# Altium footprint library Generic Connector.PcbLib: 143 footprints (part 4 of 9)
Each footprint in its own frame and in the unit in brackets; x right, y up, seen from the top. Pads: shape width x height; smd on the part's side, far side on the other; paste and mask are expansions set on the pad; w line width, h text height; cw(c..) or ccw(c..) is an arc to the next point about the centre after c.
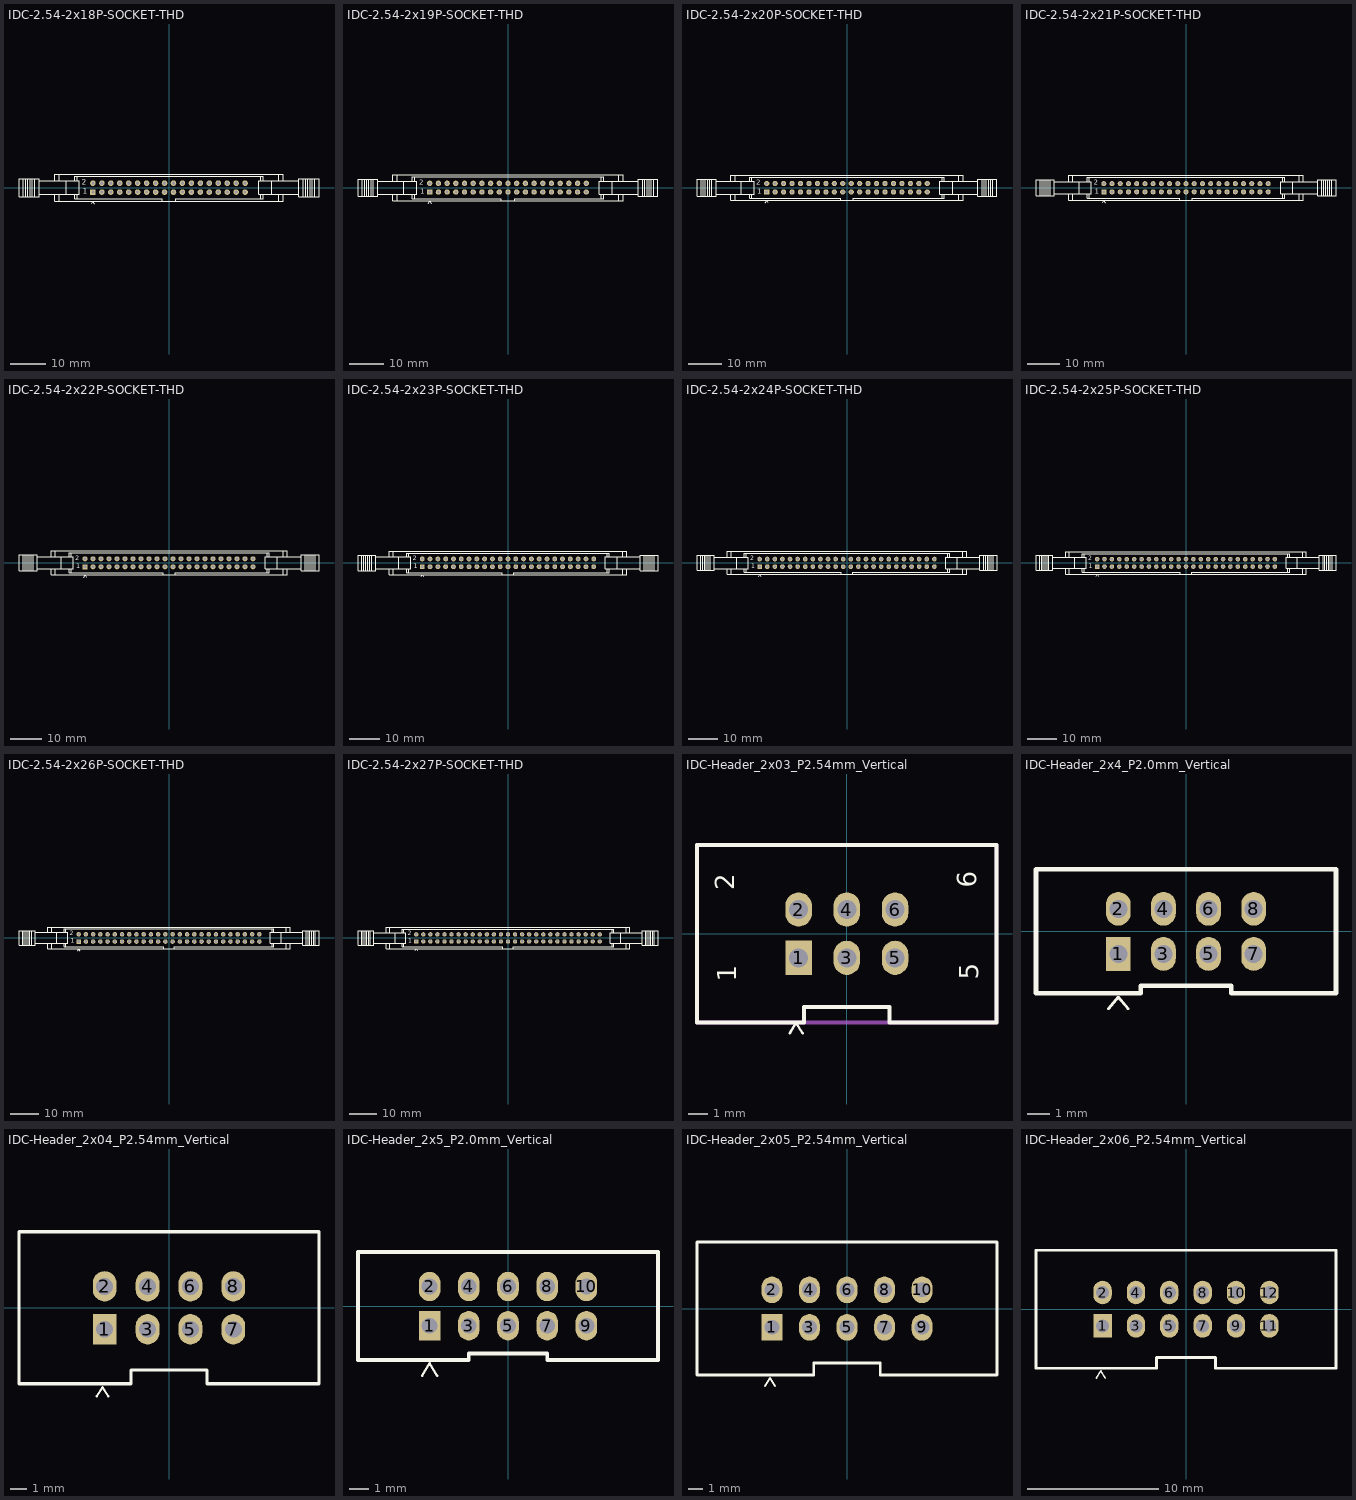
[diagram p3: the footprints below, top view; thin cyan lines are the x and y axes]

## IDC-2.54-2x18P-SOCKET-THD [mil]
pads (36):
  rect 62x62 hole 35.43: 1(-850,-50)
  round 62 hole 35.43: 2(-850,50) 3(-750,-50) 4(-750,50) 5(-650,-50) 6(-650,50) 7(-550,-50) 8(-550,50) 9(-450,-50) 10(-450,50) 11(-350,-50) 12(-350,50) 13(-250,-50) 14(-250,50) 15(-150,-50) 16(-150,50) 17(-50,-50) 18(-50,50) 19(50,-50) 20(50,50) 21(150,-50) 22(150,50) 23(250,-50) 24(250,50) 25(350,-50) 26(350,50) 27(450,-50) 28(450,50) 29(550,-50) 30(550,50) 31(650,-50) 32(650,50) 33(750,-50) 34(750,50) 35(850,-50) 36(850,50)
Top Overlay:
  lines w5: -865,-180 -850,-155 -835,-180
  lines w7.87: -1050,-125 -75,-125 ; 75,-125 1050,-125
  lines w8: -1625,-100 -1625,100 ; -1600,-100 -1600,100 ; -1575,-100 -1575,100 ; -1550,-100 -1550,100 ; -1525,-100 -1525,100 ; -1500,-100 -1500,100 ; -1450,-75 -1050,-75 ; -1450,75 -1050,75 ; -1275,-75 -1275,-150 1275,-150 1275,-75 ; -1275,75 -1275,150 1275,150 1275,75 ; -1225,-150 -1225,-75 ; -1225,75 -1225,150 ; -1150,-75 -1150,75 ; -1050,-125 -1050,-75 ; -1025,-125 -1025,-75 ; -1025,75 -1025,125 ; -75,-150 -75,-125 ; 75,-150 75,-125 ; 1025,-125 1025,-75 ; 1025,75 1025,125 ; 1050,-125 1050,-75 ; 1150,-75 1150,75 ; 1225,-150 1225,-75 ; 1225,75 1225,150 ; 1450,-75 1050,-75 ; 1450,75 1050,75 ; 1500,-100 1500,100 ; 1525,-100 1525,100 ; 1550,-100 1550,100 ; 1575,-100 1575,100 ; 1600,-100 1600,100 ; 1625,-100 1625,100 ; -1050,-75 -1000,-75 -1000,75 -1050,75 ; -1050,75 -1050,125 1050,125 1050,75 ; 1050,-75 1000,-75 1000,75 1050,75 ; 1675,-100 1675,100 ; 1675,-100 1675,100 ; 1675,-100 1675,100 ; 1675,-100 1450,-100 1450,100 1675,100 ; -1675,-100 -1450,-100 -1450,100 -1675,100 -1675,-100
  text "1" at -962,-70 h60
  text "2" at -972,35 h60

## IDC-2.54-2x19P-SOCKET-THD [mil]
pads (38):
  rect 62x62 hole 35.43: 1(-900,-50)
  round 62 hole 35.43: 2(-900,50) 3(-800,-50) 4(-800,50) 5(-700,-50) 6(-700,50) 7(-600,-50) 8(-600,50) 9(-500,-50) 10(-500,50) 11(-400,-50) 12(-400,50) 13(-300,-50) 14(-300,50) 15(-200,-50) 16(-200,50) 17(-100,-50) 18(-100,50) 19(0,-50) 20(0,50) 21(100,-50) 22(100,50) 23(200,-50) 24(200,50) 25(300,-50) 26(300,50) 27(400,-50) 28(400,50) 29(500,-50) 30(500,50) 31(600,-50) 32(600,50) 33(700,-50) 34(700,50) 35(800,-50) 36(800,50) 37(900,-50) 38(900,50)
Top Overlay:
  lines w5: -915,-180 -900,-155 -885,-180
  lines w7.87: -1100,-125 -75,-125 ; 75,-125 1100,-125
  lines w8: -1675,-100 -1675,100 ; -1650,-100 -1650,100 ; -1625,-100 -1625,100 ; -1600,-100 -1600,100 ; -1575,-100 -1575,100 ; -1550,-100 -1550,100 ; -1500,-75 -1100,-75 ; -1500,75 -1100,75 ; -1325,-75 -1325,-150 1325,-150 1325,-75 ; -1325,75 -1325,150 1325,150 1325,75 ; -1275,-150 -1275,-75 ; -1275,75 -1275,150 ; -1200,-75 -1200,75 ; -1100,-125 -1100,-75 ; -1075,-125 -1075,-75 ; -1075,75 -1075,125 ; -75,-150 -75,-125 ; 75,-150 75,-125 ; 1075,-125 1075,-75 ; 1075,75 1075,125 ; 1100,-125 1100,-75 ; 1200,-75 1200,75 ; 1275,-150 1275,-75 ; 1275,75 1275,150 ; 1500,-75 1100,-75 ; 1500,75 1100,75 ; 1550,-100 1550,100 ; 1575,-100 1575,100 ; 1600,-100 1600,100 ; 1625,-100 1625,100 ; 1650,-100 1650,100 ; 1675,-100 1675,100 ; -1100,-75 -1050,-75 -1050,75 -1100,75 ; -1100,75 -1100,125 1100,125 1100,75 ; 1100,-75 1050,-75 1050,75 1100,75 ; 1725,-100 1500,-100 1500,100 1725,100 ; 1725,-100 1725,100 ; 1725,-100 1725,100 ; 1725,-100 1725,100 ; -1725,-100 -1500,-100 -1500,100 -1725,100 -1725,-100
  text "1" at -1012,-70 h60
  text "2" at -1022,35 h60

## IDC-2.54-2x20P-SOCKET-THD [mil]
pads (40):
  rect 62x62 hole 35.43: 1(-950,-50)
  round 62 hole 35.43: 2(-950,50) 3(-850,-50) 4(-850,50) 5(-750,-50) 6(-750,50) 7(-650,-50) 8(-650,50) 9(-550,-50) 10(-550,50) 11(-450,-50) 12(-450,50) 13(-350,-50) 14(-350,50) 15(-250,-50) 16(-250,50) 17(-150,-50) 18(-150,50) 19(-50,-50) 20(-50,50) 21(50,-50) 22(50,50) 23(150,-50) 24(150,50) 25(250,-50) 26(250,50) 27(350,-50) 28(350,50) 29(450,-50) 30(450,50) 31(550,-50) 32(550,50) 33(650,-50) 34(650,50) 35(750,-50) 36(750,50) 37(850,-50) 38(850,50) 39(950,-50) 40(950,50)
Top Overlay:
  lines w5: -965,-180 -950,-155 -935,-180
  lines w8: -1725,-100 -1725,100 ; -1700,-100 -1700,100 ; -1675,-100 -1675,100 ; -1650,-100 -1650,100 ; -1625,-100 -1625,100 ; -1600,-100 -1600,100 ; -1550,-75 -1150,-75 ; -1550,75 -1150,75 ; -1375,-75 -1375,-150 1375,-150 1375,-75 ; -1375,75 -1375,150 1375,150 1375,75 ; -1325,-150 -1325,-75 ; -1325,75 -1325,150 ; -1250,-75 -1250,75 ; -1125,-125 -1125,-75 ; -1125,75 -1125,125 ; -75,-150 -75,-125 -1150,-125 -1150,-75 ; 75,-150 75,-125 1150,-125 1150,-75 ; 1125,-125 1125,-75 ; 1125,75 1125,125 ; 1250,-75 1250,75 ; 1325,-150 1325,-75 ; 1325,75 1325,150 ; 1550,-75 1150,-75 ; 1550,75 1150,75 ; 1600,-100 1600,100 ; 1625,-100 1625,100 ; 1650,-100 1650,100 ; 1675,-100 1675,100 ; 1700,-100 1700,100 ; 1725,-100 1725,100 ; -1150,-75 -1100,-75 -1100,75 -1150,75 ; -1150,75 -1150,125 1150,125 1150,75 ; 1150,-75 1100,-75 1100,75 1150,75 ; 1775,-100 1550,-100 1550,100 1775,100 ; 1775,-100 1775,100 ; 1775,-100 1775,100 ; 1775,-100 1775,100 ; -1775,-100 -1550,-100 -1550,100 -1775,100 -1775,-100
  text "1" at -1062,-70 h60
  text "2" at -1072,35 h60

## IDC-2.54-2x21P-SOCKET-THD [mil]
pads (42):
  rect 62x62 hole 35.43: 1(-1000,-50)
  round 62 hole 35.43: 2(-1000,50) 3(-900,-50) 4(-900,50) 5(-800,-50) 6(-800,50) 7(-700,-50) 8(-700,50) 9(-600,-50) 10(-600,50) 11(-500,-50) 12(-500,50) 13(-400,-50) 14(-400,50) 15(-300,-50) 16(-300,50) 17(-200,-50) 18(-200,50) 19(-100,-50) 20(-100,50) 21(0,-50) 22(0,50) 23(100,-50) 24(100,50) 25(200,-50) 26(200,50) 27(300,-50) 28(300,50) 29(400,-50) 30(400,50) 31(500,-50) 32(500,50) 33(600,-50) 34(600,50) 35(700,-50) 36(700,50) 37(800,-50) 38(800,50) 39(900,-50) 40(900,50) 41(1000,-50) 42(1000,50)
Top Overlay:
  lines w5: -1015,-180 -1000,-155 -985,-180
  lines w8: -1775,-100 -1775,100 ; -1750,-100 -1750,100 ; -1725,-100 -1725,100 ; -1700,-100 -1700,100 ; -1675,-100 -1675,100 ; -1650,-100 -1650,100 ; -1600,-75 -1200,-75 ; -1600,75 -1200,75 ; -1425,-75 -1425,-150 1425,-150 1425,-75 ; -1425,75 -1425,150 1425,150 1425,75 ; -1375,-150 -1375,-75 ; -1375,75 -1375,150 ; -1300,-75 -1300,75 ; -1175,-125 -1175,-75 ; -1175,75 -1175,125 ; -75,-150 -75,-125 -1200,-125 -1200,-75 ; 75,-150 75,-125 1200,-125 1200,-75 ; 1175,-125 1175,-75 ; 1175,75 1175,125 ; 1300,-75 1300,75 ; 1375,-150 1375,-75 ; 1375,75 1375,150 ; 1600,-75 1200,-75 ; 1600,75 1200,75 ; 1650,-100 1650,100 ; 1675,-100 1675,100 ; 1700,-100 1700,100 ; 1725,-100 1725,100 ; 1750,-100 1750,100 ; 1775,-100 1775,100 ; -1200,-75 -1150,-75 -1150,75 -1200,75 ; -1200,75 -1200,125 1200,125 1200,75 ; 1200,-75 1150,-75 1150,75 1200,75 ; 1825,-100 1600,-100 1600,100 1825,100 ; 1825,-100 1825,100 ; 1825,-100 1825,100 ; 1825,-100 1825,100 ; -1825,-100 -1825,100 -1600,100 -1600,-100 -1825,-100
  text "2" at -1122,35 h60
  text "1" at -1112,-70 h60

## IDC-2.54-2x22P-SOCKET-THD [mil]
pads (44):
  rect 62x62 hole 35.43: 1(-1050,-50)
  round 62 hole 35.43: 2(-1050,50) 3(-950,-50) 4(-950,50) 5(-850,-50) 6(-850,50) 7(-750,-50) 8(-750,50) 9(-650,-50) 10(-650,50) 11(-550,-50) 12(-550,50) 13(-450,-50) 14(-450,50) 15(-350,-50) 16(-350,50) 17(-250,-50) 18(-250,50) 19(-150,-50) 20(-150,50) 21(-50,-50) 22(-50,50) 23(50,-50) 24(50,50) 25(150,-50) 26(150,50) 27(250,-50) 28(250,50) 29(350,-50) 30(350,50) 31(450,-50) 32(450,50) 33(550,-50) 34(550,50) 35(650,-50) 36(650,50) 37(750,-50) 38(750,50) 39(850,-50) 40(850,50) 41(950,-50) 42(950,50) 43(1050,-50) 44(1050,50)
Top Overlay:
  lines w5: -1065,-180 -1050,-155 -1035,-180
  lines w8: -1825,-100 -1825,100 ; -1800,-100 -1800,100 ; -1775,-100 -1775,100 ; -1750,-100 -1750,100 ; -1725,-100 -1725,100 ; -1700,-100 -1700,100 ; -1650,-75 -1250,-75 ; -1650,75 -1250,75 ; -1475,-75 -1475,-150 1475,-150 1475,-75 ; -1475,75 -1475,150 1475,150 1475,75 ; -1425,-150 -1425,-75 ; -1425,75 -1425,150 ; -1350,-75 -1350,75 ; -1225,-125 -1225,-75 ; -1225,75 -1225,125 ; -75,-150 -75,-125 -1250,-125 -1250,-75 ; 75,-150 75,-125 1250,-125 1250,-75 ; 1225,-125 1225,-75 ; 1225,75 1225,125 ; 1350,-75 1350,75 ; 1425,-150 1425,-75 ; 1425,75 1425,150 ; 1650,-75 1250,-75 ; 1650,75 1250,75 ; 1700,-100 1700,100 ; 1725,-100 1725,100 ; 1750,-100 1750,100 ; 1775,-100 1775,100 ; 1800,-100 1800,100 ; 1825,-100 1825,100 ; -1250,-75 -1200,-75 -1200,75 -1250,75 ; -1250,75 -1250,125 1250,125 1250,75 ; 1250,-75 1200,-75 1200,75 1250,75 ; 1875,-100 1875,100 ; 1875,-100 1875,100 ; 1875,-100 1875,100 ; 1875,-100 1650,-100 1650,100 1875,100 ; -1875,-100 -1650,-100 -1650,100 -1875,100 -1875,-100
  text "1" at -1162,-70 h60
  text "2" at -1172,35 h60

## IDC-2.54-2x23P-SOCKET-THD [mm]
pads (46):
  rect 1.6x1.6 hole 0.9: 1(-27.94,-1.27)
  round 1.6 hole 0.9: 2(-27.94,1.27) 3(-25.4,-1.27) 4(-25.4,1.27) 5(-22.86,-1.27) 6(-22.86,1.27) 7(-20.32,-1.27) 8(-20.32,1.27) 9(-17.78,-1.27) 10(-17.78,1.27) 11(-15.24,-1.27) 12(-15.24,1.27) 13(-12.7,-1.27) 14(-12.7,1.27) 15(-10.16,-1.27) 16(-10.16,1.27) 17(-7.62,-1.27) 18(-7.62,1.27) 19(-5.08,-1.27) 20(-5.08,1.27) 21(-2.54,-1.27) 22(-2.54,1.27) 23(0,-1.27) 24(0,1.27) 25(2.54,-1.27) 26(2.54,1.27) 27(5.08,-1.27) 28(5.08,1.27) 29(7.62,-1.27) 30(7.62,1.27) 31(10.16,-1.27) 32(10.16,1.27) 33(12.7,-1.27) 34(12.7,1.27) 35(15.24,-1.27) 36(15.24,1.27) 37(17.78,-1.27) 38(17.78,1.27) 39(20.32,-1.27) 40(20.32,1.27) 41(22.86,-1.27) 42(22.86,1.27) 43(25.4,-1.27) 44(25.4,1.27) 45(27.94,-1.27) 46(27.94,1.27)
Top Overlay:
  lines w0.127: -28.321,-4.572 -27.94,-3.937 -27.559,-4.572
  lines w0.203: -47.625,-2.54 -47.625,2.54 ; -46.99,-2.54 -46.99,2.54 ; -46.355,-2.54 -46.355,2.54 ; -45.72,-2.54 -45.72,2.54 ; -45.085,-2.54 -45.085,2.54 ; -44.45,-2.54 -44.45,2.54 ; -43.18,-1.905 -33.02,-1.905 ; -43.18,1.905 -33.02,1.905 ; -38.735,-1.905 -38.735,-3.81 38.735,-3.81 38.735,-1.905 ; -38.735,1.905 -38.735,3.81 38.735,3.81 38.735,1.905 ; -37.465,-3.81 -37.465,-1.905 ; -37.465,1.905 -37.465,3.81 ; -35.56,-1.905 -35.56,1.905 ; -32.385,-3.175 -32.385,-1.905 ; -32.385,1.905 -32.385,3.175 ; -1.905,-3.81 -1.905,-3.175 -33.02,-3.175 -33.02,-1.905 ; 1.905,-3.81 1.905,-3.175 33.02,-3.175 33.02,-1.905 ; 32.385,-3.175 32.385,-1.905 ; 32.385,1.905 32.385,3.175 ; 35.56,-1.905 35.56,1.905 ; 37.465,-3.81 37.465,-1.905 ; 37.465,1.905 37.465,3.81 ; 43.18,-1.905 33.02,-1.905 ; 43.18,1.905 33.02,1.905 ; 44.45,-2.54 44.45,2.54 ; 45.085,-2.54 45.085,2.54 ; 45.72,-2.54 45.72,2.54 ; 46.355,-2.54 46.355,2.54 ; 46.99,-2.54 46.99,2.54 ; 47.625,-2.54 47.625,2.54 ; -33.02,-1.905 -31.75,-1.905 -31.75,1.905 -33.02,1.905 ; -33.02,1.905 -33.02,3.175 33.02,3.175 33.02,1.905 ; 33.02,-1.905 31.75,-1.905 31.75,1.905 33.02,1.905 ; 48.895,-2.54 43.18,-2.54 43.18,2.54 48.895,2.54 ; 48.895,-2.54 48.895,2.54 ; 48.895,-2.54 48.895,2.54 ; 48.895,-2.54 48.895,2.54 ; -48.895,-2.54 -43.18,-2.54 -43.18,2.54 -48.895,2.54 -48.895,-2.54
  text "1" at -30.785,-1.778 h1.52
  text "2" at -31.039,0.889 h1.52

## IDC-2.54-2x24P-SOCKET-THD [mil]
pads (48):
  rect 62x62 hole 35.43: 1(-1150,-50)
  round 62 hole 35.43: 2(-1150,50) 3(-1050,-50) 4(-1050,50) 5(-950,-50) 6(-950,50) 7(-850,-50) 8(-850,50) 9(-750,-50) 10(-750,50) 11(-650,-50) 12(-650,50) 13(-550,-50) 14(-550,50) 15(-450,-50) 16(-450,50) 17(-350,-50) 18(-350,50) 19(-250,-50) 20(-250,50) 21(-150,-50) 22(-150,50) 23(-50,-50) 24(-50,50) 25(50,-50) 26(50,50) 27(150,-50) 28(150,50) 29(250,-50) 30(250,50) 31(350,-50) 32(350,50) 33(450,-50) 34(450,50) 35(550,-50) 36(550,50) 37(650,-50) 38(650,50) 39(750,-50) 40(750,50) 41(850,-50) 42(850,50) 43(950,-50) 44(950,50) 45(1050,-50) 46(1050,50) 47(1150,-50) 48(1150,50)
Top Overlay:
  lines w5: -1165,-180 -1150,-155 -1135,-180
  lines w8: -1925,-100 -1925,100 ; -1900,-100 -1900,100 ; -1875,-100 -1875,100 ; -1850,-100 -1850,100 ; -1825,-100 -1825,100 ; -1800,-100 -1800,100 ; -1750,-75 -1350,-75 ; -1750,75 -1350,75 ; -1575,-75 -1575,-150 1575,-150 1575,-75 ; -1575,75 -1575,150 1575,150 1575,75 ; -1525,-150 -1525,-75 ; -1525,75 -1525,150 ; -1450,-75 -1450,75 ; -1325,-125 -1325,-75 ; -1325,75 -1325,125 ; -75,-150 -75,-125 -1350,-125 -1350,-75 ; 75,-150 75,-125 1350,-125 1350,-75 ; 1325,-125 1325,-75 ; 1325,75 1325,125 ; 1450,-75 1450,75 ; 1525,-150 1525,-75 ; 1525,75 1525,150 ; 1750,-75 1350,-75 ; 1750,75 1350,75 ; 1800,-100 1800,100 ; 1825,-100 1825,100 ; 1850,-100 1850,100 ; 1875,-100 1875,100 ; 1900,-100 1900,100 ; 1925,-100 1925,100 ; -1350,-75 -1300,-75 -1300,75 -1350,75 ; -1350,75 -1350,125 1350,125 1350,75 ; 1350,-75 1300,-75 1300,75 1350,75 ; 1975,-100 1750,-100 1750,100 1975,100 ; 1975,-100 1975,100 ; 1975,-100 1975,100 ; 1975,-100 1975,100 ; -1975,-100 -1975,100 -1750,100 -1750,-100 -1975,-100
  text "2" at -1272,35 h60
  text "1" at -1262,-70 h60

## IDC-2.54-2x25P-SOCKET-THD [mil]
pads (50):
  rect 62x62 hole 35.43: 1(-1200,-50)
  round 62 hole 35.43: 2(-1200,50) 3(-1100,-50) 4(-1100,50) 5(-1000,-50) 6(-1000,50) 7(-900,-50) 8(-900,50) 9(-800,-50) 10(-800,50) 11(-700,-50) 12(-700,50) 13(-600,-50) 14(-600,50) 15(-500,-50) 16(-500,50) 17(-400,-50) 18(-400,50) 19(-300,-50) 20(-300,50) 21(-200,-50) 22(-200,50) 23(-100,-50) 24(-100,50) 25(0,-50) 26(0,50) 27(100,-50) 28(100,50) 29(200,-50) 30(200,50) 31(300,-50) 32(300,50) 33(400,-50) 34(400,50) 35(500,-50) 36(500,50) 37(600,-50) 38(600,50) 39(700,-50) 40(700,50) 41(800,-50) 42(800,50) 43(900,-50) 44(900,50) 45(1000,-50) 46(1000,50) 47(1100,-50) 48(1100,50) 49(1200,-50) 50(1200,50)
Top Overlay:
  lines w5: -1215,-180 -1200,-155 -1185,-180
  lines w8: -1975,-100 -1975,100 ; -1950,-100 -1950,100 ; -1925,-100 -1925,100 ; -1900,-100 -1900,100 ; -1875,-100 -1875,100 ; -1850,-100 -1850,100 ; -1800,-75 -1400,-75 ; -1800,75 -1400,75 ; -1625,-75 -1625,-150 1625,-150 1625,-75 ; -1625,75 -1625,150 1625,150 1625,75 ; -1575,-150 -1575,-75 ; -1575,75 -1575,150 ; -1500,-75 -1500,75 ; -1375,-125 -1375,-75 ; -1375,75 -1375,125 ; -75,-150 -75,-125 -1400,-125 -1400,-75 ; 75,-150 75,-125 1400,-125 1400,-75 ; 1375,-125 1375,-75 ; 1375,75 1375,125 ; 1500,-75 1500,75 ; 1575,-150 1575,-75 ; 1575,75 1575,150 ; 1800,-75 1400,-75 ; 1800,75 1400,75 ; 1850,-100 1850,100 ; 1875,-100 1875,100 ; 1900,-100 1900,100 ; 1925,-100 1925,100 ; 1950,-100 1950,100 ; 1975,-100 1975,100 ; -1400,-75 -1350,-75 -1350,75 -1400,75 ; -1400,75 -1400,125 1400,125 1400,75 ; 1400,-75 1350,-75 1350,75 1400,75 ; 2025,-100 1800,-100 1800,100 2025,100 ; 2025,-100 2025,100 ; 2025,-100 2025,100 ; 2025,-100 2025,100 ; -2025,-100 -2025,100 -1800,100 -1800,-100 -2025,-100
  text "2" at -1322,35 h60
  text "1" at -1312,-70 h60

## IDC-2.54-2x26P-SOCKET-THD [mil]
pads (52):
  rect 62x62 hole 35.43: 1(-1250,-50)
  round 62 hole 35.43: 2(-1250,50) 3(-1150,-50) 4(-1150,50) 5(-1050,-50) 6(-1050,50) 7(-950,-50) 8(-950,50) 9(-850,-50) 10(-850,50) 11(-750,-50) 12(-750,50) 13(-650,-50) 14(-650,50) 15(-550,-50) 16(-550,50) 17(-450,-50) 18(-450,50) 19(-350,-50) 20(-350,50) 21(-250,-50) 22(-250,50) 23(-150,-50) 24(-150,50) 25(-50,-50) 26(-50,50) 27(50,-50) 28(50,50) 29(150,-50) 30(150,50) 31(250,-50) 32(250,50) 33(350,-50) 34(350,50) 35(450,-50) 36(450,50) 37(550,-50) 38(550,50) 39(650,-50) 40(650,50) 41(750,-50) 42(750,50) 43(850,-50) 44(850,50) 45(950,-50) 46(950,50) 47(1050,-50) 48(1050,50) 49(1150,-50) 50(1150,50) 51(1250,-50) 52(1250,50)
Top Overlay:
  lines w5: -1265,-180 -1250,-155 -1235,-180
  lines w8: -2025,-100 -2025,100 ; -2000,-100 -2000,100 ; -1975,-100 -1975,100 ; -1950,-100 -1950,100 ; -1925,-100 -1925,100 ; -1900,-100 -1900,100 ; -1850,-75 -1450,-75 ; -1850,75 -1450,75 ; -1675,-75 -1675,-150 1675,-150 1675,-75 ; -1675,75 -1675,150 1675,150 1675,75 ; -1625,-150 -1625,-75 ; -1625,75 -1625,150 ; -1550,-75 -1550,75 ; -1425,-125 -1425,-75 ; -1425,75 -1425,125 ; -75,-150 -75,-125 -1450,-125 -1450,-75 ; 75,-150 75,-125 1450,-125 1450,-75 ; 1425,-125 1425,-75 ; 1425,75 1425,125 ; 1550,-75 1550,75 ; 1625,-150 1625,-75 ; 1625,75 1625,150 ; 1850,-75 1450,-75 ; 1850,75 1450,75 ; 1900,-100 1900,100 ; 1925,-100 1925,100 ; 1950,-100 1950,100 ; 1975,-100 1975,100 ; 2000,-100 2000,100 ; 2025,-100 2025,100 ; -1450,-75 -1400,-75 -1400,75 -1450,75 ; -1450,75 -1450,125 1450,125 1450,75 ; 1450,-75 1400,-75 1400,75 1450,75 ; 2075,-100 2075,100 ; 2075,-100 2075,100 ; 2075,-100 2075,100 ; 2075,-100 1850,-100 1850,100 2075,100 ; -2075,-100 -2075,100 -1850,100 -1850,-100 -2075,-100
  text "2" at -1372,35 h60
  text "1" at -1362,-70 h60

## IDC-2.54-2x27P-SOCKET-THD [mil]
pads (54):
  rect 62x62 hole 35.43: 1(-1300,-50)
  round 62 hole 35.43: 2(-1300,50) 3(-1200,-50) 4(-1200,50) 5(-1100,-50) 6(-1100,50) 7(-1000,-50) 8(-1000,50) 9(-900,-50) 10(-900,50) 11(-800,-50) 12(-800,50) 13(-700,-50) 14(-700,50) 15(-600,-50) 16(-600,50) 17(-500,-50) 18(-500,50) 19(-400,-50) 20(-400,50) 21(-300,-50) 22(-300,50) 23(-200,-50) 24(-200,50) 25(-100,-50) 26(-100,50) 27(0,-50) 28(0,50) 29(100,-50) 30(100,50) 31(200,-50) 32(200,50) 33(300,-50) 34(300,50) 35(400,-50) 36(400,50) 37(500,-50) 38(500,50) 39(600,-50) 40(600,50) 41(700,-50) 42(700,50) 43(800,-50) 44(800,50) 45(900,-50) 46(900,50) 47(1000,-50) 48(1000,50) 49(1100,-50) 50(1100,50) 51(1200,-50) 52(1200,50) 53(1300,-50) 54(1300,50)
Top Overlay:
  lines w5: -1315,-180 -1300,-155 -1285,-180
  lines w8: -2075,-100 -2075,100 ; -2050,-100 -2050,100 ; -2025,-100 -2025,100 ; -2000,-100 -2000,100 ; -1975,-100 -1975,100 ; -1950,-100 -1950,100 ; -1900,-75 -1500,-75 ; -1900,75 -1500,75 ; -1725,-75 -1725,-150 1725,-150 1725,-75 ; -1725,75 -1725,150 1725,150 1725,75 ; -1675,-150 -1675,-75 ; -1675,75 -1675,150 ; -1600,-75 -1600,75 ; -1475,-125 -1475,-75 ; -1475,75 -1475,125 ; -75,-150 -75,-125 -1500,-125 -1500,-75 ; 75,-150 75,-125 1500,-125 1500,-75 ; 1475,-125 1475,-75 ; 1475,75 1475,125 ; 1600,-75 1600,75 ; 1675,-150 1675,-75 ; 1675,75 1675,150 ; 1900,-75 1500,-75 ; 1900,75 1500,75 ; 1950,-100 1950,100 ; 1975,-100 1975,100 ; 2000,-100 2000,100 ; 2025,-100 2025,100 ; 2050,-100 2050,100 ; 2075,-100 2075,100 ; -1500,-75 -1450,-75 -1450,75 -1500,75 ; -1500,75 -1500,125 1500,125 1500,75 ; 1500,-75 1450,-75 1450,75 1500,75 ; 2125,-100 1900,-100 1900,100 2125,100 ; 2125,-100 2125,100 ; 2125,-100 2125,100 ; 2125,-100 2125,100 ; -2125,-100 -2125,100 -1900,100 -1900,-100 -2125,-100
  text "2" at -1422,35 h60
  text "1" at -1412,-70 h60

## IDC-Header_2x03_P2.54mm_Vertical [mm]
pads (6):
  rect 1.4x1.8 hole 1: 1(-2.54,-1.27)
  oval 1.4x1.8 hole 1: 2(-2.54,1.27) 3(0,-1.27) 4(0,1.27) 5(2.54,-1.27) 6(2.54,1.27)
Top Overlay:
  lines w0.127: -3.007,-5.233 -2.667,-4.699 -2.327,-5.233
  lines w0.2: -7.89,-4.675 -7.89,4.675 7.89,4.675 7.89,-4.675 2.25,-4.675 2.25,-3.858 -2.25,-3.858 -2.25,-4.675 -7.89,-4.675
  text "5" at 6.909,-2.413 h1
  text "6" at 6.807,2.413 h1
  text "2" at -5.918,2.286 h1
  text "1" at -5.817,-2.54 h1
Assembly Top:
  lines w0.203: -7.89,-4.675 7.89,-4.675 7.89,4.675 -7.89,4.675 -7.89,-4.675
3D body "IDC-Header_2x03_P2.54mm_Vertical.step": height 9.1, standoff -3, extent -7.716,-4.521 7.564,4.579

## IDC-Header_2x4_P2.0mm_Vertical [mm]
pads (8):
  rect 1.1x1.5 hole 0.8: 1(-3,-1)
  oval 1.1x1.5 hole 0.8: 2(-3,1) 3(-1,-1) 4(-1,1) 5(1,-1) 6(1,1) 7(3,-1) 8(3,1)
Top Overlay:
  lines w0.127: -3.429,-3.429 -3,-2.921 -2.571,-3.429
  lines w0.2: -6.65,-2.75 -6.65,2.75 6.65,2.75 6.65,-2.75 2,-2.75 2,-2.413 -2,-2.413 -2,-2.75 -6.65,-2.75

## IDC-Header_2x04_P2.54mm_Vertical [mm]
pads (8):
  rect 1.4x1.8 hole 1: 1(-3.81,-1.27)
  oval 1.4x1.8 hole 1: 2(-3.81,1.27) 3(-1.27,-1.27) 4(-1.27,1.27) 5(1.27,-1.27) 6(1.27,1.27) 7(3.81,-1.27) 8(3.81,1.27)
Top Overlay:
  lines w0.127: -4.277,-5.233 -3.937,-4.699 -3.597,-5.233
  lines w0.2: -8.88,-4.5 -2.25,-4.5 -2.25,-3.683 2.25,-3.683 2.25,-4.5 8.88,-4.5 8.88,4.5 -8.88,4.5 -8.88,-4.5
3D body "IDC-Header_2x04_P2.54mm_Vertical.step": height 9.1, standoff -3, extent -9.113,-4.503 8.707,4.597

## IDC-Header_2x5_P2.0mm_Vertical [mm]
pads (10):
  rect 1.1x1.5 hole 0.8: 1(-4,-1)
  oval 1.1x1.5 hole 0.8: 2(-4,1) 3(-2,-1) 4(-2,1) 5(0,-1) 6(0,1) 7(2,-1) 8(2,1) 9(4,-1) 10(4,1)
Top Overlay:
  lines w0.127: -4.381,-3.556 -4,-2.921 -3.619,-3.556
  lines w0.2: -7.65,-2.75 -7.65,2.75 7.65,2.75 7.65,-2.75 2,-2.75 2,-2.413 -2,-2.413 -2,-2.75 -7.65,-2.75

## IDC-Header_2x05_P2.54mm_Vertical [mm]
pads (10):
  rect 1.4x1.8 hole 1: 1(-5.08,-1.27)
  oval 1.4x1.8 hole 1: 2(-5.08,1.27) 3(-2.54,-1.27) 4(-2.54,1.27) 5(0,-1.27) 6(0,1.27) 7(2.54,-1.27) 8(2.54,1.27) 9(5.08,-1.27) 10(5.08,1.27)
Top Overlay:
  lines w0.127: -5.547,-5.233 -5.207,-4.699 -4.867,-5.233
  lines w0.2: -10.15,-4.5 -10.15,4.5 10.15,4.5 10.15,-4.5 2.25,-4.5 2.25,-3.683 -2.25,-3.683 -2.25,-4.5 -10.15,-4.5
3D body "IDC-Header_2x05_P2.54mm_Vertical.step": height 9.1, standoff -3, extent -10.104,-4.623 10.256,4.477

## IDC-Header_2x06_P2.54mm_Vertical [mm]
pads (12):
  rect 1.4x1.8 hole 1: 1(-6.35,-1.27)
  oval 1.4x1.8 hole 1: 2(-6.35,1.27) 3(-3.81,-1.27) 4(-3.81,1.27) 5(-1.27,-1.27) 6(-1.27,1.27) 7(1.27,-1.27) 8(1.27,1.27) 9(3.81,-1.27) 10(3.81,1.27) 11(6.35,-1.27) 12(6.35,1.27)
Top Overlay:
  lines w0.127: -6.817,-5.233 -6.477,-4.699 -6.137,-5.233
  lines w0.2: -11.42,-4.5 -2.25,-4.5 -2.25,-3.683 2.25,-3.683 2.25,-4.5 11.42,-4.5 11.42,4.5 -11.42,4.5 -11.42,-4.5
3D body "IDC-Header_2x06_P2.54mm_Vertical.step": height 9.1, standoff -3, extent -11.374,-4.68 11.526,4.42